# Altium footprint library 18 RESISTORS_THD_AX14_8mm_P.PcbLib: 9 footprints
Each footprint in its own frame and in the unit in brackets; x right, y up, seen from the top. Pads: shape width x height; smd on the part's side, far side on the other; paste and mask are expansions set on the pad; w line width, h text height; cw(c..) or ccw(c..) is an arc to the next point about the centre after c.
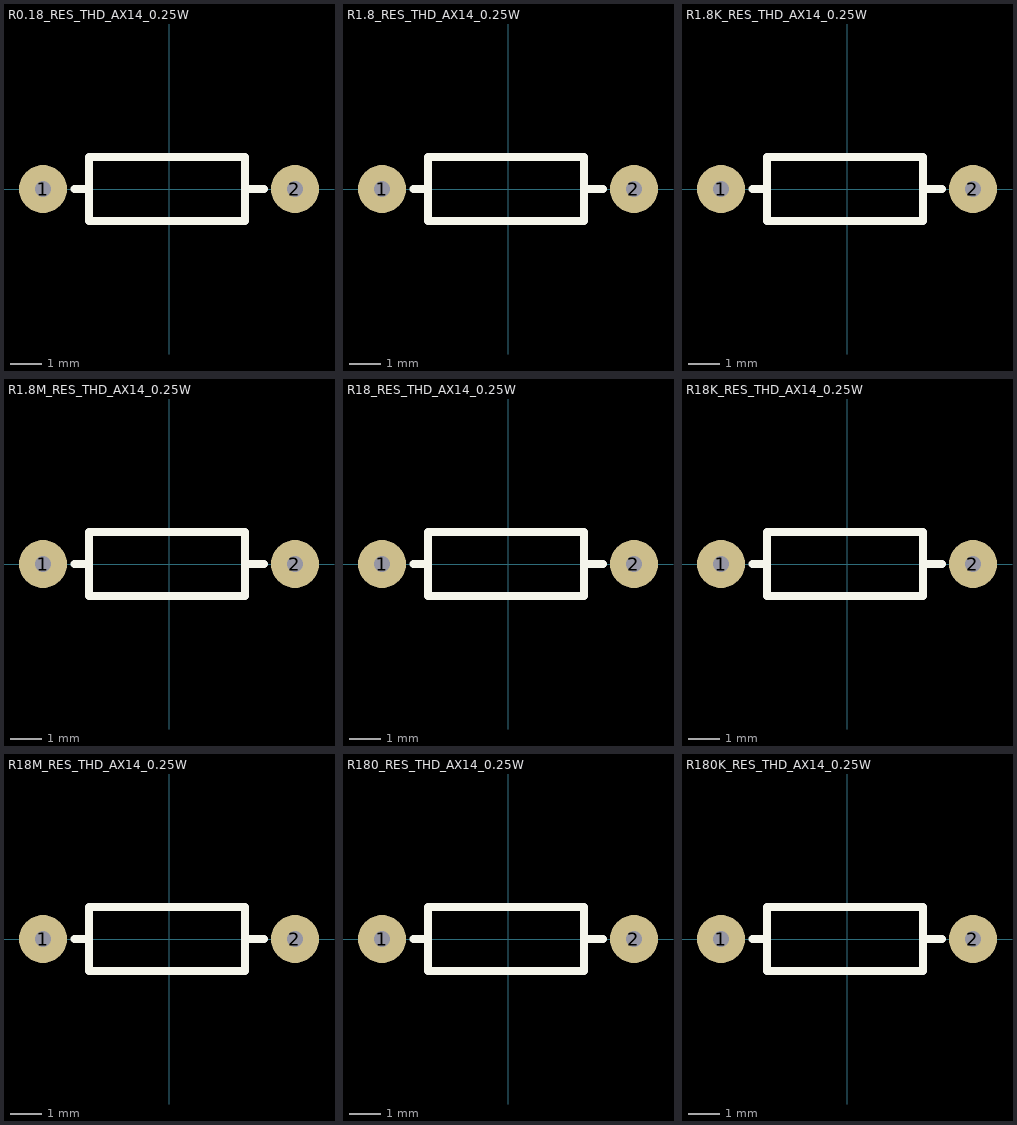
[diagram p0: the footprints below, top view; thin cyan lines are the x and y axes]

## R0.18_RES_THD_AX14_0.25W [mil] "RESISTOR 0.18 Ohm  THD AX14 0.25W Length  8mm"
pads (2):
  round 60 hole 19.68: 1(-157.48,0) 2(157.48,0)
Top Overlay:
  lines w10: -118.28,0 -100.6,0 ; 95,0 118.49,0 ; -100,-40 -100,40 95,40 95,-40 -100,-40
3D body "RES_THD_ASR_ASRM_0.18.STEP": height 96.5, standoff -96.46, extent -167.32,-45.33 167.32,45.33

## R1.8_RES_THD_AX14_0.25W [mil] "RESISTOR 1.8 Ohm  THD AX14 0.25W Length  8mm"
pads (2):
  round 60 hole 19.68: 1(-157.48,0) 2(157.48,0)
Top Overlay:
  lines w10: -118.28,0 -100.6,0 ; 95,0 118.49,0 ; -100,-40 95,-40 95,40 -100,40 -100,-40
3D body "RES_THD_ASR_ASRM_1.8.STEP": height 96.5, standoff -96.46, extent -167.32,-45.33 167.32,45.33

## R1.8K_RES_THD_AX14_0.25W [mil] "RESISTOR 1.8K Ohm  THD AX14 0.25W Length  8mm"
pads (2):
  round 60 hole 19.68: 1(-157.48,0) 2(157.48,0)
Top Overlay:
  lines w10: -118.28,0 -100.6,0 ; 95,0 118.49,0 ; -100,-40 -100,40 95,40 95,-40 -100,-40
3D body "RES_THD_ASR_ASRM_1.8K.STEP": height 96.5, standoff -96.46, extent -167.32,-45.33 167.32,45.33

## R1.8M_RES_THD_AX14_0.25W [mil] "RESISTOR 1.8M Ohm  THD AX14 0.25W Length  8mm"
pads (2):
  round 60 hole 19.68: 1(-157.48,0) 2(157.48,0)
Top Overlay:
  lines w10: -118.28,0 -100.6,0 ; 95,0 118.49,0 ; -100,-40 95,-40 95,40 -100,40 -100,-40
3D body "RES_THD_ASR_ASRM_1.8M.STEP": height 96.5, standoff -96.46, extent -167.32,-45.33 167.32,45.33

## R18_RES_THD_AX14_0.25W [mil] "RESISTOR 18 Ohm  THD AX14 0.25W Length  8mm"
pads (2):
  round 60 hole 19.68: 1(-157.48,0) 2(157.48,0)
Top Overlay:
  lines w10: -118.28,0 -100.6,0 ; 95,0 118.49,0 ; -100,-40 -100,40 95,40 95,-40 -100,-40
3D body "RES_THD_ASR_ASRM_18.STEP": height 96.5, standoff -96.46, extent -167.32,-45.33 167.32,45.33

## R18K_RES_THD_AX14_0.25W [mil] "RESISTOR 18K Ohm  THD AX14 0.25W Length  8mm"
pads (2):
  round 60 hole 19.68: 1(-157.48,0) 2(157.48,0)
Top Overlay:
  lines w10: -118.28,0 -100.6,0 ; 95,0 118.49,0 ; -100,-40 -100,40 95,40 95,-40 -100,-40
3D body "RES_THD_ASR_ASRM_18K.STEP": height 96.5, standoff -96.46, extent -167.32,-45.33 167.32,45.33

## R18M_RES_THD_AX14_0.25W [mil] "RESISTOR 18M Ohm  THD AX14 0.25W Length  8mm"
pads (2):
  round 60 hole 19.68: 1(-157.48,0) 2(157.48,0)
Top Overlay:
  lines w10: -118.28,0 -100.6,0 ; 95,0 118.49,0 ; -100,-40 95,-40 95,40 -100,40 -100,-40
3D body "RES_THD_ASR_ASRM_18M.STEP": height 96.5, standoff -96.46, extent -167.32,-45.33 167.32,45.33

## R180_RES_THD_AX14_0.25W [mil] "RESISTOR 180 Ohm  THD AX14 0.25W Length  8mm"
pads (2):
  round 60 hole 19.68: 1(-157.48,0) 2(157.48,0)
Top Overlay:
  lines w10: -118.28,0 -100.6,0 ; 95,0 118.49,0 ; -100,-40 95,-40 95,40 -100,40 -100,-40
3D body "RES_THD_ASR_ASRM_180.STEP": height 96.5, standoff -96.46, extent -167.32,-45.33 167.32,45.33

## R180K_RES_THD_AX14_0.25W [mil] "RESISTOR 180K Ohm  THD AX14 0.25W Length  8mm"
pads (2):
  round 60 hole 19.68: 1(-157.48,0) 2(157.48,0)
Top Overlay:
  lines w10: -118.28,0 -100.6,0 ; 95,0 118.49,0 ; -100,-40 -100,40 95,40 95,-40 -100,-40
3D body "RES_THD_ASR_ASRM_180K.STEP": height 96.5, standoff -96.46, extent -167.32,-45.33 167.32,45.33